# EAGLE library part FH19C-40S-0.5SH (library SSI)
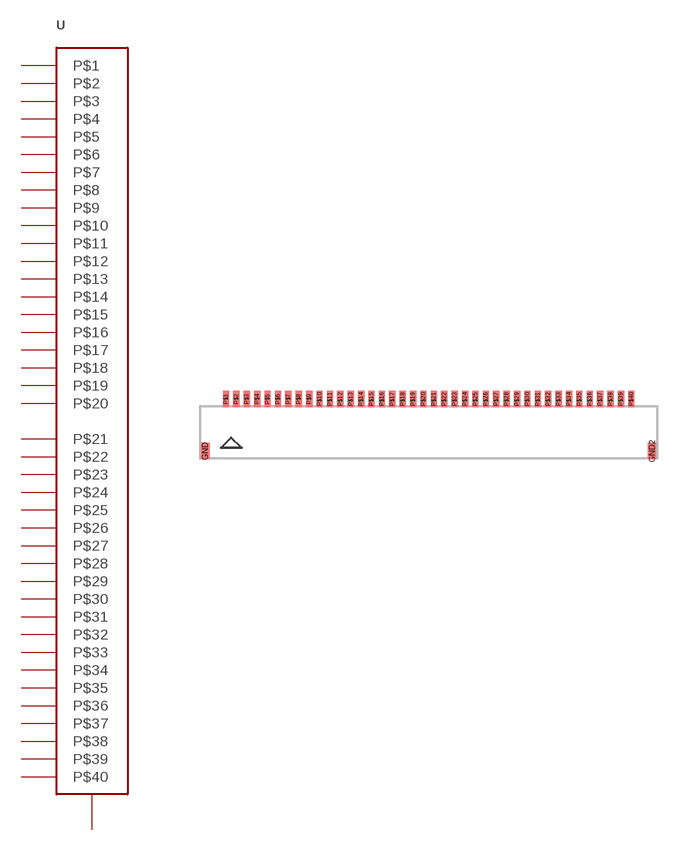
[diagram p29: symbol with the pads of FH19C-40S-0.5SH; footprint FH19C-40S-0.5SH]

Designator prefix -

## FH19C-40S-0.5SH  [FH19C-40S-0.5SH]
GND  GND
GND2  GND
P$1  P$1
P$2  P$2
P$3  P$3
P$4  P$4
P$5  P$5
P$6  P$6
P$7  P$7
P$8  P$8
P$9  P$9
P$10  P$10
P$11  P$11
P$12  P$12
P$13  P$13
P$14  P$14
P$15  P$15
P$16  P$16
P$17  P$17
P$18  P$18
P$19  P$19
P$20  P$20
P$21  P$21
P$22  P$22
P$23  P$23
P$24  P$24
P$25  P$25
P$26  P$26
P$27  P$27
P$28  P$28
P$29  P$29
P$30  P$30
P$31  P$31
P$32  P$32
P$33  P$33
P$34  P$34
P$35  P$35
P$36  P$36
P$37  P$37
P$38  P$38
P$39  P$39
P$40  P$40

## Footprint FH19C-40S-0.5SH (pad centres in mm)
smd 0.4 x 0.8: GND -10.75,-0.92; GND2 10.75,-0.92
smd 0.3 x 0.8: P$1 -9.75,1.58; P$2 -9.25,1.58; P$3 -8.75,1.58; P$4 -8.25,1.58; P$5 -7.75,1.58; P$6 -7.25,1.58; P$7 -6.75,1.58; P$8 -6.25,1.58; P$9 -5.75,1.58; P$10 -5.25,1.58; P$11 -4.75,1.58; P$12 -4.25,1.58; P$13 -3.75,1.58; P$14 -3.25,1.58; P$15 -2.75,1.58; P$16 -2.25,1.58; P$17 -1.75,1.58; P$18 -1.25,1.58; P$19 -0.75,1.58; P$20 -0.25,1.58; P$21 0.25,1.58; P$22 0.75,1.58; P$23 1.25,1.58; P$24 1.75,1.58; P$25 2.25,1.58; P$26 2.75,1.58; P$27 3.25,1.58; P$28 3.75,1.58; P$29 4.25,1.58; P$30 4.75,1.58; P$31 5.25,1.58; P$32 5.75,1.58; P$33 6.25,1.58; P$34 6.75,1.58; P$35 7.25,1.58; P$36 7.75,1.58; P$37 8.25,1.58; P$38 8.75,1.58; P$39 9.25,1.58; P$40 9.75,1.58